# Altium schematic symbol library touch.SCHLIB: 4 symbols
Pins are listed as number, name and electrical type; pins without a type are passive.

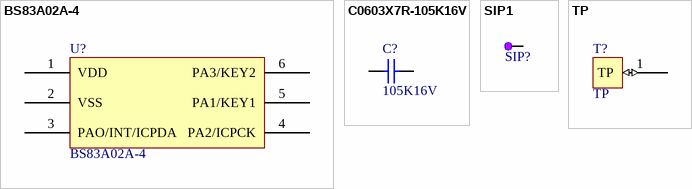
[diagram p0: symbols BS83A02A-4 to TP]

## BS83A02A-4
designator U?
footprint U-SOT-23-6
pins: 1 VDD, 2 VSS, 3 PAO/INT/ICPDA, 4 PA2/ICPCK, 5 PA1/KEY1, 6 PA3/KEY2

## C0603X7R-105K16V
designator C?, comment 105K16V
贴片电容-陶瓷; 规格型号: 1uF±10%_16V_X7R_C0603; 生产商: 风华 三星; 供应商: *; 备注: *
footprint C0603
pins: 1, 2

## SIP1
designator SIP?  (value not drawn)
单排排针，2.54mm针距，1P,针总长11.1mm,黑色; 单价: 0.002
footprint SIP-2MM
pins: 1

## TP
designator T?
footprint touch 按键
pins: 1 TP (io)